# EAGLE library part HDR-2X5 (library connector)
2x5 HDR size -Breakable strip
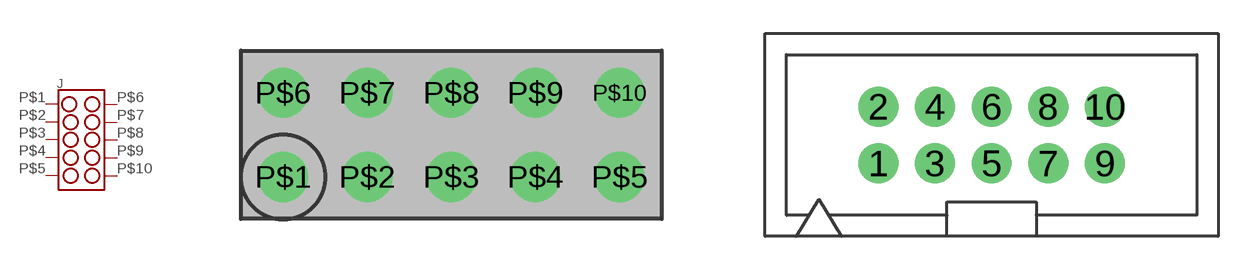
[diagram p3: symbol with the pads of HDR-2X5; footprints HDR-2X5, 302-S101]

Designator prefix J

## HDR-2X5  [HDR-2X5]
P$1  1
P$2  3
P$3  5
P$4  7
P$5  9
P$6  2
P$7  4
P$8  6
P$9  8
P$10  10

## HDR-2X5SHROUDED (DIGIKEY: ED1543-ND; MFR: On Shore Technology; MPN: 302-S101)  [302-S101]
1  1
2  2
3  3
4  4
5  5
6  6
7  7
8  8
9  9
10  10

## HDR-2X5MALEPIN_50MIL_SMT (DIGIKEY: S9013E-05-ND; MFR: Sullins; MPN: GRPB052VWQP-RC; P1I: o)  [GRPB052VWQP]
Pads as for 302-S101

## Footprint HDR-2X5 (pad centres in mm)
drill 1.016: P$1 -5.08,-1.27; P$2 -2.54,-1.27; P$3 0,-1.27; P$4 2.54,-1.27; P$5 5.08,-1.27; P$6 -5.08,1.27; P$7 -2.54,1.27; P$8 0,1.27; P$9 2.54,1.27; P$10 5.08,1.27

## Footprint 302-S101 (pad centres in mm)
drill 1.194: 1 -5.08,-1.27; 2 -5.08,1.27; 3 -2.54,-1.27; 4 -2.54,1.27; 5 0,-1.27; 6 0,1.27; 7 2.54,-1.27; 8 2.54,1.27; 9 5.08,-1.27; 10 5.08,1.27

## Footprint GRPB052VWQP (pad centres in mm)
smd 0.762 x 1.829: 1 -2.54,1.664; 2 -2.54,-1.664; 3 -1.27,1.664; 4 -1.27,-1.664; 5 0,1.664; 6 0,-1.664; 7 1.27,1.664; 8 1.27,-1.664; 9 2.54,1.664; 10 2.54,-1.664
hole 0.991 at 1.905,0
hole 0.991 at -1.905,0